# EAGLE library part UMD5N (library aarf)
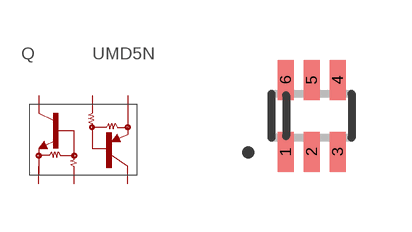
[diagram p9: symbol with the pads of SOT363; footprint SOT363]

Designator prefix Q

## UMD5N  [SOT363]
1  1  pas
2  2  pas
3  3  pas
4  4  pas
5  5  in
6  6  pas

## Footprint SOT363 (pad centres in mm)
SOT-363 (SC-706 Lead) Source: Data sheet <http://www.farnell.com/datasheets/461166.pdf>
smd 0.4 x 1: 1 -0.65,-0.9; 2 0,-0.9; 3 0.65,-0.9; 4 0.65,0.9; 5 0,0.9; 6 -0.65,0.9